# EAGLE library part MAX3221 (library Maxim)
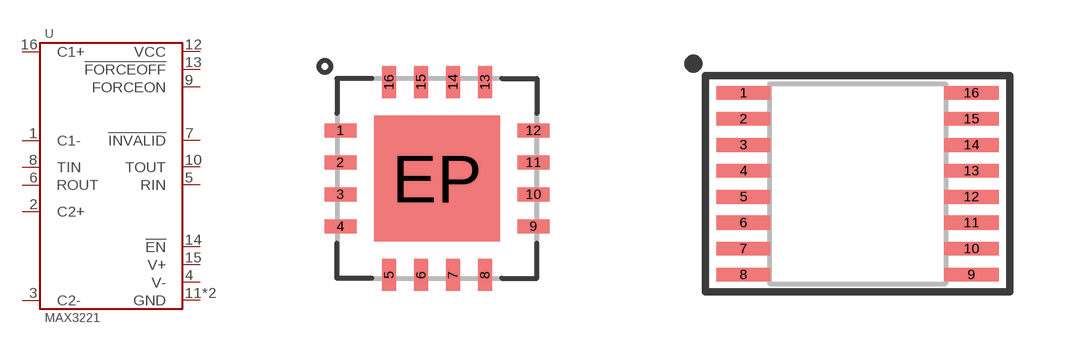
[diagram p4: symbol with the pads of QFN-16_5X5; footprints QFN-16_5X5, TSSOP-16]

Designator prefix U

## MAX3221ECTE+  [QFN-16_5X5]
1  C1-
2  C2+
3  C2-
4  V-
5  RIN
6  ROUT
7  !INVALID
8  TIN
9  FORCEON
10  TOUT
11  GND
12  VCC
13  !FORCEOFF
14  !EN
15  V+
16  C1+
EP  GND

## MAX3221ECPWR  [TSSOP-16]
1  !EN
2  C1+
3  V+
4  C1-
5  C2+
6  C2-
7  V-
8  RIN
9  ROUT
10  !INVALID
11  TIN
12  FORCEON
13  TOUT
14  GND
15  VCC
16  !FORCEOFF

## Footprint QFN-16_5X5 (pad centres in mm)
smd 0.8 x 0.35: 1 -2.415,1.2; 2 -2.415,0.4; 3 -2.415,-0.4; 4 -2.415,-1.2; 9 2.415,-1.2; 10 2.415,-0.4; 11 2.415,0.4; 12 2.415,1.2
smd 0.35 x 0.8: 5 -1.2,-2.415; 6 -0.4,-2.415; 7 0.4,-2.415; 8 1.2,-2.415; 13 1.2,2.415; 14 0.4,2.415; 15 -0.4,2.415; 16 -1.2,2.415
smd 3.15 x 3.15: EP 0,0

## Footprint TSSOP-16 (pad centres in mm)
smd 1.35 x 0.35: 1 -2.85,2.275; 2 -2.85,1.625; 3 -2.85,0.975; 4 -2.85,0.325; 5 -2.85,-0.325; 6 -2.85,-0.975; 7 -2.85,-1.625; 8 -2.85,-2.275; 9 2.85,-2.275; 10 2.85,-1.625; 11 2.85,-0.975; 12 2.85,-0.325; 13 2.85,0.325; 14 2.85,0.975; 15 2.85,1.625; 16 2.85,2.275